# EAGLE library part CONECTOR10LEDS (library KiloMux)
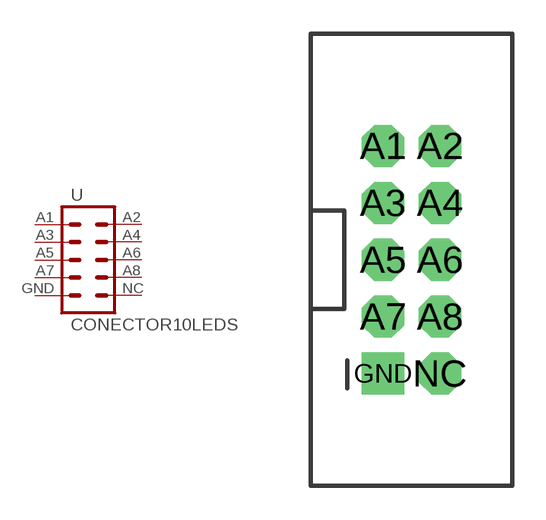
[diagram p6: symbol with the pads of CONECTOR10LEDS; footprint CONECTOR10LEDS]

Designator prefix -

## CONECTOR10LEDS  [CONECTOR10LEDS]
A1  POS1  pas
A2  POS2  pas
A3  POS3  pas
A4  POS4  pas
A5  POS5  pas
A6  POS6  pas
A7  POS7  pas
A8  POS8  pas
GND  GND  pas
NC  NC  pas

## Footprint CONECTOR10LEDS (pad centres in mm)
drill 1.016 pad 1.88 octagon: A1 -1.27,5.08; A2 1.27,5.08; A3 -1.27,2.54; A4 1.27,2.54; A5 -1.27,0; A6 1.27,0; A7 -1.27,-2.54; A8 1.27,-2.54; NC 1.27,-5.08
drill 1 pad 1.88 square: GND -1.27,-5.08